# Altium schematic symbol library ME6212C33M5G.SchLib: 1 symbol
Pins are listed as number, name and electrical type; pins without a type are passive.

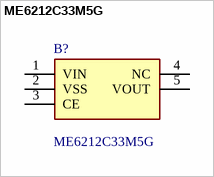
[diagram p0: symbol ME6212C33M5G]

## ME6212C33M5G
designator B?
q; Manufacturer_Name: Microne; Geometry.Height: 1.45mm; Manufacturer_Part_Number: ME6212C33M5G; Mouser Part Number: *; Mouser Price/Stock: *; Arrow Part Number: *; Arrow Price/Stock: *; Datasheet Link: https://datasheet.lcsc.com/lcsc/1810311822_MICRONE-Nanjing-Micro-One-Elec-ME6212C33M5G_C81233.pdf
footprint SOT95P270X145-5N
pins: 1 VIN, 2 VSS, 3 CE, 4 NC, 5 VOUT